# Altium integrated library Infineon_Power_MOSFET.IntLib: 1448 symbols (part 39 of 47)
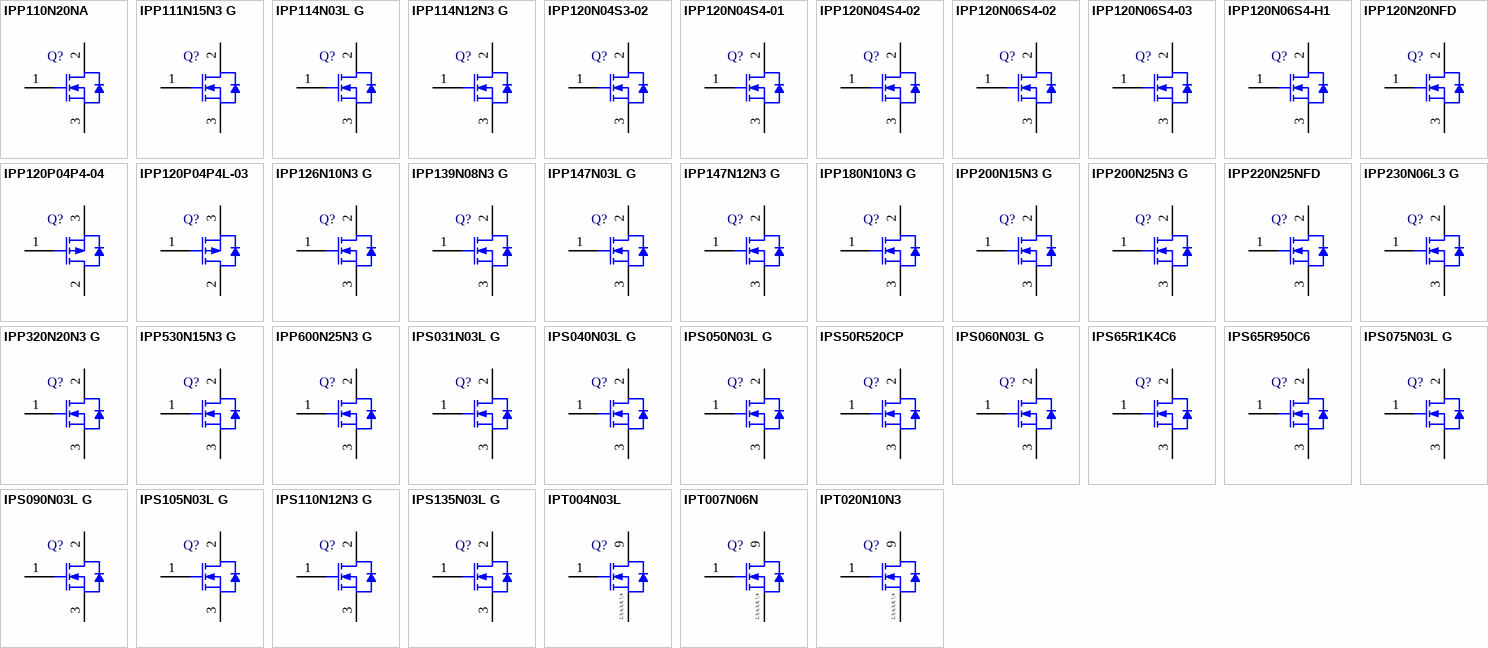
[diagram p75: symbols IPP110N20NA to IPT020N10N3]

## IPS031N03L G
designator Q?
N-Channel OptiMOS 3 Power-Transistor, 30 V VDS, 90 A ID, -55 to 175 degC, PG-TO251-3-11, Tube, Green; Manufacturer: Infineon; PartNumber: IPS031N03L G; Green: TRUE; ID (max): 90 A; IDpuls (max): 400 A; Polarity: N; Ptot (max): 94 W; QG: 25 nC; RDS (on) (max): 3.1 mOhm; RDS (on) (max) (@4.5V): 4.4 mOhm; Rth: 1.6 K/W; RthJA (max): 75 K/W; VDS (max): 30 V; VGS(th) (max): 2.2 V; VGS(th) (min): 1 V; DatasheetVersion: Rev. 2.1; PackageVersion: Rev. 03, 01/2008; PackageReference: PG-TO251-3-11; PackageDescription: 3-Pin Plastic (Green) Transistor Single Outline Package, 6.54 x 6.1 mm Body, 2.29 mm Pitch; Supplier 1: Mouser; Supplier Part Number 1: 726-IPS031N03LG; Supplier 2: Digi-Key; Supplier Part Number 2: IPS031N03LGIN-ND; Halogen-free: TRUE; Packing: Tube; RthJC (max): 1.6 K/W; Mounting Technology: Through Hole; ComponentLink1Description: Manufacturer URL; ComponentLink1URL: http://www.infineon.com/; ComponentLink2Description: Datasheet; ComponentLink2URL: http://www.infineon.com/dgdl/IPD031N03L_rev2.1.pdf?folderId=db3a304313b8b5a60113cee8ed2a02db&fileId=db3a304327b897500127d79737cb714c; ComponentLink3Description: Package Specification; ComponentLink3URL: http://www.infineon.com/dgdl/IPS50R520CP_rev2.1.pdf?folderId=db3a3043163797a6011637d4bae7003b&fileId=db3a30432b16d655012b1a87faf22d80
footprint INF-PG-TO251-3-11 (FM, 3-Leads, Body 6.54x2.285mm, Pitch 2.29mm)
pins: 1 GATE, 2 DRAIN, 3 SOURCE

## IPS040N03L G
designator Q?
N-Channel OptiMOS 3 Power-Transistor, 30 V VDS, 90 A ID, -55 to 175 degC, PG-TO251-3-11, Tube, Green; Manufacturer: Infineon; PartNumber: IPS040N03L G; Green: TRUE; ID (max): 90 A; IDpuls (max): 400 A; Polarity: N; Ptot (max): 79 W; QG: 18.2 nC; RDS (on) (max): 4 mOhm; RDS (on) (max) (@4.5V): 5.9 mOhm; Rth: 1.9 K/W; RthJA (max): 75 K/W; VDS (max): 30 V; VGS(th) (max): 2.2 V; VGS(th) (min): 1 V; DatasheetVersion: Rev. 2.1; PackageVersion: Rev. 03, 01/2008; PackageReference: PG-TO251-3-11; PackageDescription: 3-Pin Plastic (Green) Transistor Single Outline Package, 6.54 x 6.1 mm Body, 2.29 mm Pitch; Supplier 1: Mouser; Supplier Part Number 1: 726-IPS040N03LG; Supplier 2: Digi-Key; Supplier Part Number 2: IPS040N03LGIN-ND; Halogen-free: TRUE; Packing: Tube; RthJC (max): 1.9 K/W; Mounting Technology: Through Hole; ComponentLink1Description: Manufacturer URL; ComponentLink1URL: http://www.infineon.com/; ComponentLink2Description: Datasheet; ComponentLink2URL: http://www.infineon.com/dgdl/IPD040N03LG_rev2.1.pdf?folderId=db3a304313b8b5a60113cee8ed2a02db&fileId=db3a304327b897500127d7d219f0715d; ComponentLink3Description: Package Specification; ComponentLink3URL: http://www.infineon.com/dgdl/IPS50R520CP_rev2.1.pdf?folderId=db3a3043163797a6011637d4bae7003b&fileId=db3a30432b16d655012b1a87faf22d80
footprint INF-PG-TO251-3-11 (FM, 3-Leads, Body 6.54x2.285mm, Pitch 2.29mm)
pins: 1 GATE, 2 DRAIN, 3 SOURCE

## IPS050N03L G
designator Q?
N-Channel OptiMOS 3 Power-Transistor, 30 V VDS, 50 A ID, -55 to 175 degC, PG-TO251-3-11, Tube, Green; Manufacturer: Infineon; PartNumber: IPS050N03L G; Green: TRUE; ID (max): 50 A; IDpuls (max): 350 A; Polarity: N; Ptot (max): 68 W; QG: 15 nC; RDS (on) (max): 5 mOhm; RDS (on) (max) (@4.5V): 7.3 mOhm; Rth: 2.2 K/W; RthJA (max): 75 K/W; VDS (max): 30 V; VGS(th) (max): 2.2 V; VGS(th) (min): 1 V; DatasheetVersion: Rev. 1.02; PackageVersion: Rev. 03, 01/2008; PackageReference: PG-TO251-3-11; PackageDescription: 3-Pin Plastic (Green) Transistor Single Outline Package, 6.54 x 6.1 mm Body, 2.29 mm Pitch; Supplier 1: Farnell; Supplier Part Number 1: 1775658; Supplier 2: Digi-Key; Supplier Part Number 2: IPS050N03LGIN-ND; Halogen-free: TRUE; Packing: Tube; RthJC (max): 2.2 K/W; Mounting Technology: Through Hole; ComponentLink1Description: Manufacturer URL; ComponentLink1URL: http://www.infineon.com/; ComponentLink2Description: Datasheet; ComponentLink2URL: http://www.infineon.com/dgdl/IPD050N03LG_rev1%5B1%5D2.pdf?folderId=db3a304313b8b5a60113cee8763b02d7&fileId=db3a30432313ff5e01239e47dbfe701f; ComponentLink3Description: Package Specification; ComponentLink3URL: http://www.infineon.com/dgdl/IPS50R520CP_rev2.1.pdf?folderId=db3a3043163797a6011637d4bae7003b&fileId=db3a30432b16d655012b1a87faf22d80
footprint INF-PG-TO251-3-11 (FM, 3-Leads, Body 6.54x2.285mm, Pitch 2.29mm)
pins: 1 GATE, 2 DRAIN, 3 SOURCE

## IPS50R520CP
designator Q?
N-Channel CoolMOS Power-Transistor, 500 V VDS, 7.1 A ID, -55 to 150 degC, PG-TO251-3-11, Tube, Green; Manufacturer: Infineon; PartNumber: IPS50R520CP; Green: TRUE; ID (max): 7.1 A; IDpuls (max): 15 A; Polarity: N; Ptot (max): 66 W; QG: 13 nC; RDS (on) (max): 520 mOhm; Rth: 1.9 K/W; RthJA (max): 62 K/W; VDS (max): 500 V; VGS(th) (max): 3.5 V; VGS(th) (min): 2.5 V; DatasheetVersion: Rev. 2.1; PackageVersion: Rev. 03, 01/2008; PackageReference: PG-TO251-3-11; PackageDescription: 3-Pin Plastic (Green) Transistor Single Outline Package, 6.54 x 6.1 mm Body, 2.29 mm Pitch; Supplier 1: Mouser; Supplier Part Number 1: 726-IPS50R520CP; Supplier 2: Digi-Key; Supplier Part Number 2: IPS50R520CP-ND; Packing: Tube; RthJC (max): 1.9 K/W; Technology: CoolMOS CP; Mounting Technology: Through Hole; ComponentLink1Description: Manufacturer URL; ComponentLink1URL: http://www.infineon.com/; ComponentLink2Description: Datasheet; ComponentLink2URL: http://www.infineon.com/dgdl/IPS50R520CP_rev2.1.pdf?folderId=db3a3043163797a6011637d4bae7003b&fileId=db3a30432b16d655012b1a87faf22d80; ComponentLink3Description: Package Specification; ComponentLink3URL: http://www.infineon.com/dgdl/IPS50R520CP_rev2.1.pdf?folderId=db3a3043163797a6011637d4bae7003b&fileId=db3a30432b16d655012b1a87faf22d80
footprint INF-PG-TO251-3-11 (FM, 3-Leads, Body 6.54x2.285mm, Pitch 2.29mm)
pins: 1 GATE, 2 DRAIN, 3 SOURCE

## IPS060N03L G
designator Q?
N-Channel OptiMOS 3 Power-Transistor, 30 V VDS, 50 A ID, -55 to 175 degC, PG-TO251-3-11, Tube, Green; Manufacturer: Infineon; PartNumber: IPS060N03L G; Green: TRUE; ID (max): 50 A; IDpuls (max): 350 A; Polarity: N; Ptot (max): 56 W; QG: 11.3 nC; RDS (on) (max): 6 mOhm; RDS (on) (max) (@4.5V): 9 mOhm; Rth: 2.7 K/W; RthJA (max): 75 K/W; VDS (max): 30 V; VGS(th) (max): 2.2 V; VGS(th) (min): 1 V; DatasheetVersion: Rev. 2.1; PackageVersion: Rev. 03, 01/2008; PackageReference: PG-TO251-3-11; PackageDescription: 3-Pin Plastic (Green) Transistor Single Outline Package, 6.54 x 6.1 mm Body, 2.29 mm Pitch; Supplier 1: Mouser; Supplier Part Number 1: 726-IPS060N03LG; Supplier 2: Digi-Key; Supplier Part Number 2: IPS060N03LGIN-ND; Halogen-free: TRUE; Packing: Tube; RthJC (max): 2.7 K/W; Mounting Technology: Through Hole; ComponentLink1Description: Manufacturer URL; ComponentLink1URL: http://www.infineon.com/; ComponentLink2Description: Datasheet; ComponentLink2URL: http://www.infineon.com/dgdl/IPD060N03LG_rev2.1.pdf?folderId=db3a304313b8b5a60113cee8ed2a02db&fileId=db3a30431936bc4b0119951eb6136f7e; ComponentLink3Description: Package Specification; ComponentLink3URL: http://www.infineon.com/dgdl/IPS50R520CP_rev2.1.pdf?folderId=db3a3043163797a6011637d4bae7003b&fileId=db3a30432b16d655012b1a87faf22d80
footprint INF-PG-TO251-3-11 (FM, 3-Leads, Body 6.54x2.285mm, Pitch 2.29mm)
pins: 1 GATE, 2 DRAIN, 3 SOURCE

## IPS65R1K4C6
designator Q?
N-Channel CoolMOS C6 Power-Transistor, 650 V VDS, 3.2 A ID, -55 to 150 degC, PG-TO251-3-11, Tube, Green; Manufacturer: Infineon; PartNumber: IPS65R1K4C6; Green: TRUE; ID (max): 3.2 A; IDpuls (max): 8.3 A; Polarity: N; Ptot (max): 28 W; QG: 10.5 nC; RDS (on) (max): 1,400 mOhm; Rth: 4.4 K/W; RthJA (max): 62 K/W; VDS (max): 650 V; VGS(th) (max): 3.5 V; VGS(th) (min): 2.5 V; DatasheetVersion: Rev. 2.0; PackageVersion: Rev. 03, 01/2008; PackageReference: PG-TO251-3-11; PackageDescription: 3-Pin Plastic (Green) Transistor Single Outline Package, 6.54 x 6.1 mm Body, 2.29 mm Pitch; Halogen-free: TRUE; Packing: Tube; RthJC (max): 4.4 K/W; Technology: CoolMOS C6; Mounting Technology: Through Hole; ComponentLink1Description: Manufacturer URL; ComponentLink1URL: http://www.infineon.com/; ComponentLink2Description: Datasheet; ComponentLink2URL: http://www.infineon.com/dgdl/DS_IPS65R1K4C6.pdf?folderId=db3a3043163797a6011637d4bae7003b&fileId=db3a30433899edae01389e8ec2f0504f; ComponentLink3Description: Package Specification; ComponentLink3URL: http://www.infineon.com/dgdl/IPS50R520CP_rev2.1.pdf?folderId=db3a3043163797a6011637d4bae7003b&fileId=db3a30432b16d655012b1a87faf22d80
footprint INF-PG-TO251-3-11 (FM, 3-Leads, Body 6.54x2.285mm, Pitch 2.29mm)
pins: 1 GATE, 2 DRAIN, 3 SOURCE

## IPS65R950C6
designator Q?
N-Channel CoolMOS C6 Power-Transistor, 650 V VDS, 4.5 A ID, -55 to 150 degC, PG-TO251-3-11, Tube, Green; Manufacturer: Infineon; PartNumber: IPS65R950C6; Green: TRUE; ID (max): 4.5 A; IDpuls (max): 12 A; Polarity: N; Ptot (max): 37 W; QG: 15.3 nC; RDS (on) (max): 950 mOhm; Rth: 3.4 K/W; RthJA (max): 62 K/W; VDS (max): 650 V; VGS(th) (max): 3.5 V; VGS(th) (min): 2.5 V; DatasheetVersion: Rev. 2.0; PackageVersion: Rev. 03, 01/2008; PackageReference: PG-TO251-3-11; PackageDescription: 3-Pin Plastic (Green) Transistor Single Outline Package, 6.54 x 6.1 mm Body, 2.29 mm Pitch; Halogen-free: TRUE; Packing: Tube; RthJC (max): 3.4 K/W; Technology: CoolMOS C6; Mounting Technology: Through Hole; ComponentLink1Description: Manufacturer URL; ComponentLink1URL: http://www.infineon.com/; ComponentLink2Description: Datasheet; ComponentLink2URL: http://www.infineon.com/dgdl/DS_IPS65R950C6.pdf?folderId=db3a3043163797a6011637d4bae7003b&fileId=db3a30433899edae01389e81a77f502f; ComponentLink3Description: Package Specification; ComponentLink3URL: http://www.infineon.com/dgdl/IPS50R520CP_rev2.1.pdf?folderId=db3a3043163797a6011637d4bae7003b&fileId=db3a30432b16d655012b1a87faf22d80
footprint INF-PG-TO251-3-11 (FM, 3-Leads, Body 6.54x2.285mm, Pitch 2.29mm)
pins: 1 GATE, 2 DRAIN, 3 SOURCE

## IPS075N03L G
designator Q?
N-Channel OptiMOS 3 Power-Transistor, 30 V VDS, 50 A ID, -55 to 175 degC, PG-TO251-3-11, Tube, Green; Manufacturer: Infineon; PartNumber: IPS075N03L G; Green: TRUE; ID (max): 50 A; IDpuls (max): 350 A; Polarity: N; Ptot (max): 47 W; QG: 8.7 nC; RDS (on) (max): 7.5 mOhm; RDS (on) (max) (@4.5V): 11.4 mOhm; Rth: 3.2 K/W; RthJA (max): 75 K/W; VDS (max): 30 V; VGS(th) (max): 2.2 V; VGS(th) (min): 1 V; DatasheetVersion: Rev. 2.1; PackageVersion: Rev. 03, 01/2008; PackageReference: PG-TO251-3-11; PackageDescription: 3-Pin Plastic (Green) Transistor Single Outline Package, 6.54 x 6.1 mm Body, 2.29 mm Pitch; Supplier 1: Newark; Supplier Part Number 1: 60R2769; Supplier 2: Farnell; Supplier Part Number 2: 1775660; Supplier 3: Digi-Key; Supplier Part Number 3: IPS075N03L G-ND; Halogen-free: TRUE; Packing: Tube; RthJC (max): 3.2 K/W; Mounting Technology: Through Hole; ComponentLink1Description: Manufacturer URL; ComponentLink1URL: http://www.infineon.com/; ComponentLink2Description: Datasheet; ComponentLink2URL: http://www.infineon.com/dgdl/IPD075N03LG_rev2.1.pdf?folderId=db3a304313b8b5a60113cee8763b02d7&fileId=db3a30431936bc4b011951d824f83aeb; ComponentLink3Description: Package Specification; ComponentLink3URL: http://www.infineon.com/dgdl/IPS50R520CP_rev2.1.pdf?folderId=db3a3043163797a6011637d4bae7003b&fileId=db3a30432b16d655012b1a87faf22d80
footprint INF-PG-TO251-3-11 (FM, 3-Leads, Body 6.54x2.285mm, Pitch 2.29mm)
pins: 1 GATE, 2 DRAIN, 3 SOURCE

## IPS090N03L G
designator Q?
N-Channel OptiMOS 3 Power-Transistor, 30 V VDS, 40 A ID, -55 to 175 degC, PG-TO251-3-11, Tube, Green; Manufacturer: Infineon; PartNumber: IPS090N03L G; Green: TRUE; ID (max): 40 A; IDpuls (max): 280 A; Polarity: N; Ptot (max): 42 W; QG: 7.4 nC; RDS (on) (max): 9 mOhm; RDS (on) (max) (@4.5V): 13.5 mOhm; Rth: 3.6 K/W; RthJA (max): 75 K/W; VDS (max): 30 V; VGS(th) (max): 2.2 V; VGS(th) (min): 1 V; DatasheetVersion: Rev. 1.09; PackageVersion: Rev. 03, 01/2008; PackageReference: PG-TO251-3-11; PackageDescription: 3-Pin Plastic (Green) Transistor Single Outline Package, 6.54 x 6.1 mm Body, 2.29 mm Pitch; Supplier 1: Mouser; Supplier Part Number 1: 726-IPS090N03LG; Supplier 2: Digi-Key; Supplier Part Number 2: IPS090N03LGIN-ND; Halogen-free: TRUE; Packing: Tube; RthJC (max): 3.6 K/W; Mounting Technology: Through Hole; ComponentLink1Description: Manufacturer URL; ComponentLink1URL: http://www.infineon.com/; ComponentLink2Description: Datasheet; ComponentLink2URL: http://www.infineon.com/dgdl/IPD090N03LG_rev19.pdf?folderId=db3a304313b8b5a60113cee8ed2a02db&fileId=db3a304327b897500127d89522867181; ComponentLink3Description: Package Specification; ComponentLink3URL: http://www.infineon.com/dgdl/IPS50R520CP_rev2.1.pdf?folderId=db3a3043163797a6011637d4bae7003b&fileId=db3a30432b16d655012b1a87faf22d80
footprint INF-PG-TO251-3-11 (FM, 3-Leads, Body 6.54x2.285mm, Pitch 2.29mm)
pins: 1 GATE, 2 DRAIN, 3 SOURCE

## IPS105N03L G
designator Q?
N-Channel OptiMOS 3 Power-Transistor, 30 V VDS, 35 A ID, -55 to 175 degC, PG-TO251-3-11, Tube, Green; Manufacturer: Infineon; PartNumber: IPS105N03L G; Green: TRUE; ID (max): 35 A; IDpuls (max): 245 A; Polarity: N; Ptot (max): 38 W; QG: 6.6 nC; RDS (on) (max): 10.5 mOhm; RDS (on) (max) (@4.5V): 15.5 mOhm; Rth: 3.9 K/W; RthJA (max): 75 K/W; VDS (max): 30 V; VGS(th) (max): 2.2 V; VGS(th) (min): 1 V; DatasheetVersion: Rev. 2.1; PackageVersion: Rev. 03, 01/2008; PackageReference: PG-TO251-3-11; PackageDescription: 3-Pin Plastic (Green) Transistor Single Outline Package, 6.54 x 6.1 mm Body, 2.29 mm Pitch; Supplier 1: Mouser; Supplier Part Number 1: 726-IPS105N03LG; Supplier 2: Newark; Supplier Part Number 2: 60R2771; Supplier 3: Farnell; Supplier Part Number 3: 1775663; Supplier 4: Digi-Key; Supplier Part Number 4: IPS105N03LGIN-ND; Halogen-free: TRUE; Packing: Tube; RthJC (max): 3.9 K/W; Mounting Technology: Through Hole; ComponentLink1Description: Manufacturer URL; ComponentLink1URL: http://www.infineon.com/; ComponentLink2Description: Datasheet; ComponentLink2URL: http://www.infineon.com/dgdl/IPD105N03LG_rev2.1.pdf?folderId=db3a304313b8b5a60113cee8ed2a02db&fileId=db3a3043271faefd0127b84794a33348; ComponentLink3Description: Package Specification; ComponentLink3URL: http://www.infineon.com/dgdl/IPS50R520CP_rev2.1.pdf?folderId=db3a3043163797a6011637d4bae7003b&fileId=db3a30432b16d655012b1a87faf22d80
footprint INF-PG-TO251-3-11 (FM, 3-Leads, Body 6.54x2.285mm, Pitch 2.29mm)
pins: 1 GATE, 2 DRAIN, 3 SOURCE

## IPS110N12N3 G
designator Q?
N-Channel OptiMOS 3 Power-Transistor, 120 V VDS, 75 A ID, -55 to 175 degC, PG-TO-251SL, Tube, Green; Manufacturer: Infineon; PartNumber: IPS110N12N3 G; Green: TRUE; ID (max): 75 A; IDpuls (max): 300 A; Polarity: N; Ptot (max): 136 W; QG: 49 nC; RDS (on) (max): 11 mOhm; Rth: 1.1 K/W; RthJA (max): 75 K/W; VDS (max): 120 V; VGS(th) (max): 4 V; VGS(th) (min): 2 V; DatasheetVersion: Rev. 2.2; PackageVersion: Rev. 03, 01/2008; PackageReference: PG-TO-251SL; PackageDescription: 3-Pin Plastic (Green) Transistor Single Outline Package, 6.54 x 6.1 mm Body, 2.29 mm Pitch; Supplier 1: Digi-Key; Supplier Part Number 1: IPS110N12N3 G-ND; Packing: Tube; RthJC (max): 1.1 K/W; Mounting Technology: Through Hole; ComponentLink1Description: Manufacturer URL; ComponentLink1URL: http://www.infineon.com/; ComponentLink2Description: Datasheet; ComponentLink2URL: http://www.infineon.com/dgdl/IPD_S110N12N3+G_Rev2.2.pdf?folderId=db3a304313b8b5a60113cee8763b02d7&fileId=db3a30432239cccd0122a7a49e2b7d1d; ComponentLink3Description: Package Specification; ComponentLink3URL: http://www.infineon.com/dgdl/IPD_S110N12N3+G_Rev2.2.pdf?folderId=db3a304313b8b5a60113cee8763b02d7&fileId=db3a30432239cccd0122a7a49e2b7d1d
footprint INF-PG-TO-251SL (FM, 3-Leads, Body 6.54x2.285mm, Pitch 2.29mm)
pins: 1 GATE, 2 DRAIN, 3 SOURCE

## IPS135N03L G
designator Q?
N-Channel OptiMOS 3 Power-Transistor, 30 V VDS, 30 A ID, -55 to 175 degC, PG-TO251-3-11, Tube, Green; Manufacturer: Infineon; PartNumber: IPS135N03L G; Green: TRUE; ID (max): 30 A; IDpuls (max): 210 A; Polarity: N; Ptot (max): 31 W; QG: 4.8 nC; RDS (on) (max): 13.5 mOhm; RDS (on) (max) (@4.5V): 20.5 mOhm; Rth: 4.9 K/W; RthJA (max): 75 K/W; VDS (max): 30 V; VGS(th) (max): 2.2 V; VGS(th) (min): 1 V; DatasheetVersion: Rev. 2.1; PackageVersion: Rev. 03, 01/2008; PackageReference: PG-TO251-3-11; PackageDescription: 3-Pin Plastic (Green) Transistor Single Outline Package, 6.54 x 6.1 mm Body, 2.29 mm Pitch; Supplier 1: Digi-Key; Supplier Part Number 1: IPS135N03LGIN-ND; Halogen-free: TRUE; Packing: Tube; RthJC (max): 4.9 K/W; Mounting Technology: Through Hole; ComponentLink1Description: Manufacturer URL; ComponentLink1URL: http://www.infineon.com/; ComponentLink2Description: Datasheet; ComponentLink2URL: http://www.infineon.com/dgdl/IPD135N03LG_rev2.1.pdf?folderId=db3a304313b8b5a60113cee8ed2a02db&fileId=db3a304327b897500127b8b9540f0003; ComponentLink3Description: Package Specification; ComponentLink3URL: http://www.infineon.com/dgdl/IPS50R520CP_rev2.1.pdf?folderId=db3a3043163797a6011637d4bae7003b&fileId=db3a30432b16d655012b1a87faf22d80
footprint INF-PG-TO251-3-11 (FM, 3-Leads, Body 6.54x2.285mm, Pitch 2.29mm)
pins: 1 GATE, 2 DRAIN, 3 SOURCE

## IPT004N03L
designator Q?
N-Channel OptiMOS(TM) Power-MOSFET, 30 V VDS, 300 A ID, -55 to 175 degC, PG-HSOF-8, Reel, Green; Manufacturer: Infineon; PartNumber: IPT004N03L; Green: TRUE; ID (max): 300 A; IDpuls (max): 1,200 A; Polarity: FALSE; Ptot (max): 300 W; QG: 122 nC; RDS (on) (max): 0.4 mOhm; RthJA (max): 40 K/W; RthJC (max): 0.5 K/W; VDS (max): 30 V; VGS(th) (max): 2.2 V; VGS(th) (min): 0.7 V; DatasheetVersion: Rev. 1.2; PackageVersion: Rev. 04; PackageReference: PG-HSOF-8-1; PackageDescription: 8-Pin Plastic (Green) Heatlink Small Outline Flat Leads Package, 10.375 x 9.9 mm Body, 0.8 mm Pitch; Supplier 1: Mouser; Supplier Part Number 1: N/A; Halogen-free: TRUE; Packing: Reel; Technology: OptiMOS(TM); Mounting Technology: Surface Mount; ComponentLink1Description: Manufacturer URL; ComponentLink1URL: http://www.infineon.com/; ComponentLink2Description: Datasheet; ComponentLink2URL: http://www.infineon.com/dgdl/IPT004N03L_rev1.2.pdf?folderId=db3a304313b8b5a60113cee8763b02d7&fileId=db3a30433e9d5d11013e9e0f382600c2; ComponentLink3Description: Package Specification; ComponentLink3URL: http://www.infineon.com/cms/packages/SMD_-_Surface_Mounted_Devices/P-PG-HSOF/P-PG-HSOF-08-1.html?__locale=en
footprint INF-PG-HSOF-8-1_V (HSOF, 8-Leads, Body 11.675x9.9mm, Pitch 1.2mm)
pins: 1 GATE, 2 S, 3 S, 4 S, 5 S, 6 S, 7 S, 8 S, 9 D
text: 2, 3, 4, 5, 6, 7, 8

## IPT007N06N
designator Q?
N-Channel OptiMOS(TM) Power-Transistor, 60 V VDS, 300 A ID, -55 to 175 degC, PG-HSOF-8, Reel, Green; Manufacturer: Infineon; PartNumber: IPT007N06N; Green: TRUE; ID (max): 300 A; IDpuls (max): 1200 A; Polarity: N; Ptot (max): 375 W; QG: 216 nc; RDS (on) (max): 0.75 mOhm; RthJA (max): 62 K/W; RthJC (max): 0.4 K/W; VDS (max): 60 V; VGS(th) (max): 3.3 V; VGS(th) (min): 2.1 V; DatasheetVersion: Rev. 2.1; PackageVersion: Rev. 04; PackageReference: PG-HSOF-8-1; PackageDescription: 8-Pin Plastic (Green) Heatlink Small Outline Flat Leads Package, 10.375 x 9.9 mm Body, 0.8 mm Pitch; Supplier 1: Mouser; Supplier Part Number 1: N/A; Halogen-free: TRUE; Packing: Reel; Mounting Technology: Surface Mount; ComponentLink1Description: Manufacturer URL; ComponentLink1URL: http://www.infineon.com/; ComponentLink2Description: Datasheet; ComponentLink2URL: http://www.infineon.com/dgdl/DS_IPT007N06N_2_1.pdf?folderId=db3a304313b8b5a60113cee8763b02d7&fileId=db3a30433e9d5d11013e9e4618320118; ComponentLink3Description: Package Specification; ComponentLink3URL: http://www.infineon.com/cms/packages/SMD_-_Surface_Mounted_Devices/P-PG-HSOF/P-PG-HSOF-08-1.html?__locale=en
footprint INF-PG-HSOF-8-1_V (HSOF, 8-Leads, Body 11.675x9.9mm, Pitch 1.2mm)
pins: 1 GATE, 2 S, 3 S, 4 S, 5 S, 6 S, 7 S, 8 S, 9 D
text: 2, 3, 4, 5, 6, 7, 8

## IPT020N10N3
designator Q?
N-Channel OptiMOS(TM) 3 Power-Transistor, 100 V VDS, 300 A ID, -55 to 175 degC, PG-HSOF-8, Reel, Green; Manufacturer: Infineon; PartNumber: IPT020N10N3; Green: TRUE; ID (max): 300 A; IDpuls (max): 1200 A; Polarity: N; Ptot (max): 375 W; QG: 156 nc; RDS (on) (max): 2 mOhm; RthJA (max): 62 K/W; RthJC (max): 0.4 K/W; VDS (max): 100 V; VGS(th) (max): 3.5 V; VGS(th) (min): 2 V; DatasheetVersion: Rev. 2.0; PackageVersion: Rev. 04; PackageReference: PG-HSOF-8-1; PackageDescription: 8-Pin Plastic (Green) Heatlink Small Outline Flat Leads Package, 10.375 x 9.9 mm Body, 0.8 mm Pitch; Supplier 1: Mouser; Supplier Part Number 1: N/A; Halogen-free: TRUE; Packing: Reel; Mounting Technology: Surface Mount; ComponentLink1Description: Manufacturer URL; ComponentLink1URL: http://www.infineon.com/; ComponentLink2Description: Datasheet; ComponentLink2URL: http://www.infineon.com/dgdl/DS_IPT020N10N3_2_0.pdf?folderId=db3a304313b8b5a60113cee8763b02d7&fileId=db3a30433e9d5d11013e9e58035b0158; ComponentLink3Description: Package Specification; ComponentLink3URL: http://www.infineon.com/cms/packages/SMD_-_Surface_Mounted_Devices/P-PG-HSOF/P-PG-HSOF-08-1.html?__locale=en
footprint INF-PG-HSOF-8-1_V (HSOF, 8-Leads, Body 11.675x9.9mm, Pitch 1.2mm)
pins: 1 GATE, 2 S, 3 S, 4 S, 5 S, 6 S, 7 S, 8 S, 9 D
text: 2, 3, 4, 5, 6, 7, 8

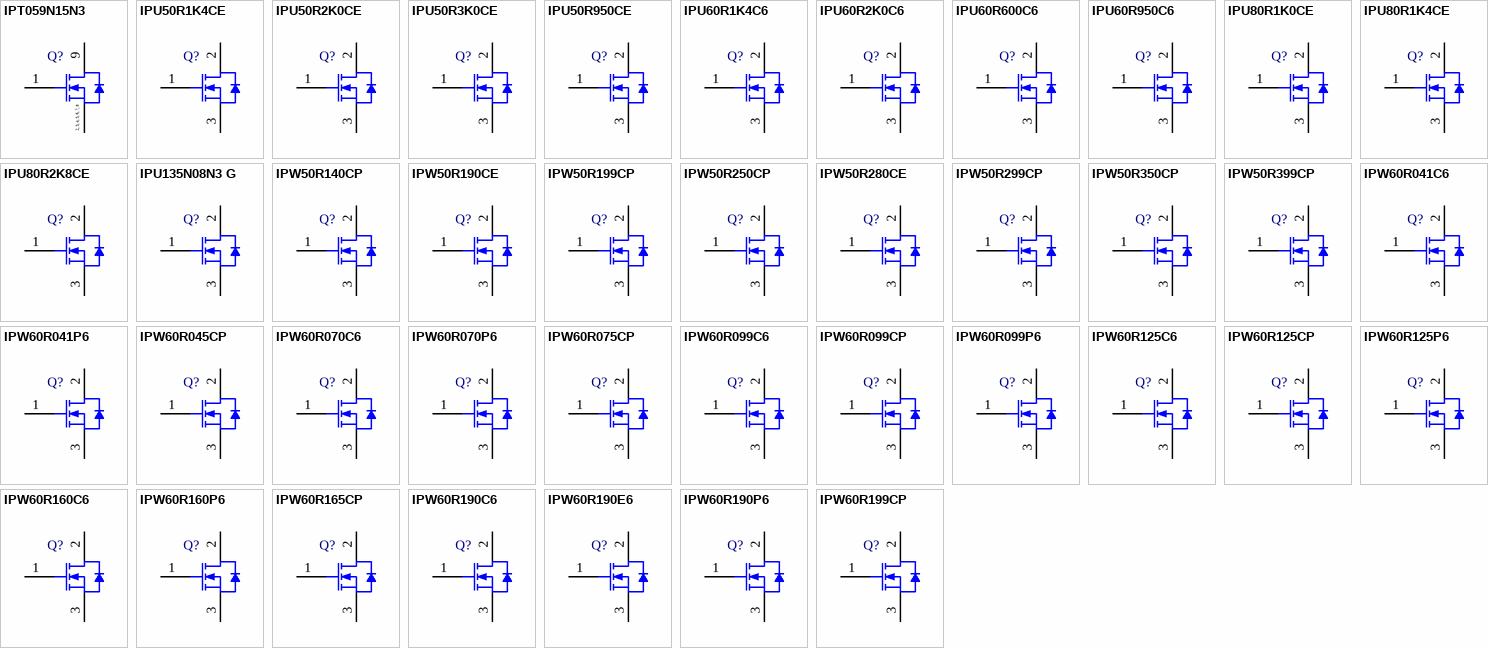
[diagram p31: symbols IPT059N15N3 to IPW60R199CP]

## IPT059N15N3
designator Q?
N-Channel OptiMOS(TM) 3 Power-Transistor, 150 V VDS, 155 A ID, -55 to 175 degC, PG-HSOF-8, Reel, Green; Manufacturer: Infineon; PartNumber: IPT059N15N3; Green: TRUE; ID (max): 155 A; IDpuls (max): 620 A; Polarity: N; Ptot (max): 375 W; QG: 69 nc; RDS (on) (max): 5.9 mOhm; RthJA (max): 62 K/W; RthJC (max): 0.4 K/W; VDS (max): 150 V; VGS(th) (max): 4 V; VGS(th) (min): 2 V; DatasheetVersion: Rev. 2.1; PackageVersion: Rev. 04; PackageReference: PG-HSOF-8-1; PackageDescription: 8-Pin Plastic (Green) Heatlink Small Outline Flat Leads Package, 10.375 x 9.9 mm Body, 0.8 mm Pitch; Supplier 1: Mouser; Supplier Part Number 1: N/A; Halogen-free: TRUE; Packing: Reel; Mounting Technology: Surface Mount; ComponentLink1Description: Manufacturer URL; ComponentLink1URL: http://www.infineon.com/; ComponentLink2Description: Datasheet; ComponentLink2URL: http://www.infineon.com/dgdl/DS_IPT059N15N3_2_1.pdf?folderId=db3a304326623792012669f6bee2224b&fileId=db3a30433e9d5d11013e9e62778d0185; ComponentLink3Description: Package Specification; ComponentLink3URL: http://www.infineon.com/cms/packages/SMD_-_Surface_Mounted_Devices/P-PG-HSOF/P-PG-HSOF-08-1.html?__locale=en
footprint INF-PG-HSOF-8-1_V (HSOF, 8-Leads, Body 11.675x9.9mm, Pitch 1.2mm)
pins: 1 GATE, 2 S, 3 S, 4 S, 5 S, 6 S, 7 S, 8 S, 9 D
text: 2, 3, 4, 5, 6, 7, 8

## IPU50R1K4CE
designator Q?
N-Channel CoolMOS CE Power-Transistor, 500 V VDS, 3.1 A ID, -55 to 150 degC, PG-TO-251-3-21, Tube, Green; Manufacturer: Infineon; PartNumber: IPU50R1K4CE; Green: TRUE; ID (max): 3.1 A; IDpuls (max): 9.1 A; Polarity: N; Ptot (max): 25 W; QG: 8.2 nC; RDS (on) (max): 1,400 mOhm; Rth: 4.91 K/W; RthJA (max): 62 K/W; VDS (max): 500 V; VGS(th) (max): 3.5 V; VGS(th) (min): 2.5 V; DatasheetVersion: Rev. 2.1; PackageVersion: Rev. 03, 10/2007; PackageReference: PG-TO-251-3-21; PackageDescription: 3-Pin Plastic (Green) Transistor Single Outline Package, 6.604 x 6.096 mm Body, 2.286 mm Pitch; Packing: Tube; RthJC (max): 4.91 K/W; Technology: CoolMOS CE; Mounting Technology: Through Hole; ComponentLink1Description: Manufacturer URL; ComponentLink1URL: http://www.infineon.com/; ComponentLink2Description: Datasheet; ComponentLink2URL: http://www.infineon.com/dgdl/IPx50R1K4CE_2_1.pdf?folderId=db3a3043156fd5730115c736bcc70ff2&fileId=db3a304339dcf4b10139e7c997862ca7; ComponentLink3Description: Package Specification; ComponentLink3URL: http://www.infineon.com/dgdl/SPD_U01N60C3_Rev.2.5.pdf?folderId=db3a304412b407950112b408e8c90004&fileId=db3a304412b407950112b42e18974951
footprint INF-PG-TO-251-3-21_A (FM, 3-Leads, Body 6.54x2.285mm, Pitch 2.29mm)
pins: 1 GATE, 2 DRAIN, 3 SOURCE

## IPU50R2K0CE
designator Q?
N-Channel CoolMOS CE Power-Transistor, 500 V VDS, 2.4 A ID, -55 to 150 degC, PG-TO-251-3-21, Tube, Green; Manufacturer: Infineon; PartNumber: IPU50R2K0CE; Green: TRUE; ID (max): 2.4 A; IDpuls (max): 6.1 A; Polarity: N; Ptot (max): 22 W; QG: 6 nC; RDS (on) (max): 2,000 mOhm; Rth: 5.7 K/W; RthJA (max): 62 K/W; VDS (max): 500 V; VGS(th) (max): 3.5 V; VGS(th) (min): 2.5 V; DatasheetVersion: Rev. 2.0; PackageVersion: Rev. 03, 10/2007; PackageReference: PG-TO-251-3-21; PackageDescription: 3-Pin Plastic (Green) Transistor Single Outline Package, 6.604 x 6.096 mm Body, 2.286 mm Pitch; Packing: Tube; RthJC (max): 5.7 K/W; Technology: CoolMOS CE; Mounting Technology: Through Hole; ComponentLink1Description: Manufacturer URL; ComponentLink1URL: http://www.infineon.com/; ComponentLink2Description: Datasheet; ComponentLink2URL: http://www.infineon.com/dgdl/IPx50R2K0CE_2_0.pdf?folderId=db3a3043163797a6011637d4bae7003b&fileId=db3a304339dcf4b10139e81130a92d32; ComponentLink3Description: Package Specification; ComponentLink3URL: http://www.infineon.com/dgdl/SPD_U01N60C3_Rev.2.5.pdf?folderId=db3a304412b407950112b408e8c90004&fileId=db3a304412b407950112b42e18974951
footprint INF-PG-TO-251-3-21_A (FM, 3-Leads, Body 6.54x2.285mm, Pitch 2.29mm)
pins: 1 GATE, 2 DRAIN, 3 SOURCE

## IPU50R3K0CE
designator Q?
N-Channel CoolMOS CE Power-Transistor, 500 V VDS, 1.7 A ID, -55 to 150 degC, PG-TO-251-3-21, Tube, Green; Manufacturer: Infineon; PartNumber: IPU50R3K0CE; Green: TRUE; ID (max): 1.7 A; IDpuls (max): 4.1 A; Polarity: N; Ptot (max): 18 W; QG: 4.3 nC; RDS (on) (max): 3,000 mOhm; Rth: 9.22 K/W; RthJA (max): 62 K/W; RthJC (max): 7.1 K/W; VDS (max): 500 V; VGS(th) (max): 3.5 V; VGS(th) (min): 2.5 V; DatasheetVersion: Rev. 2.0; PackageVersion: Rev. 03, 10/2007; PackageReference: PG-TO-251-3-21; PackageDescription: 3-Pin Plastic (Green) Transistor Single Outline Package, 6.604 x 6.096 mm Body, 2.286 mm Pitch; Packing: Tube; Technology: CoolMOS CE; Mounting Technology: Through Hole; ComponentLink1Description: Manufacturer URL; ComponentLink1URL: http://www.infineon.com/; ComponentLink2Description: Datasheet; ComponentLink2URL: http://www.infineon.com/dgdl/IPx50R3K0CE_2_0.pdf?folderId=db3a3043163797a6011637d4bae7003b&fileId=db3a304339dcf4b10139e7e9ff592ce4; ComponentLink3Description: Package Specification; ComponentLink3URL: http://www.infineon.com/dgdl/SPD_U01N60C3_Rev.2.5.pdf?folderId=db3a304412b407950112b408e8c90004&fileId=db3a304412b407950112b42e18974951
footprint INF-PG-TO-251-3-21_A (FM, 3-Leads, Body 6.54x2.285mm, Pitch 2.29mm)
pins: 1 GATE, 2 DRAIN, 3 SOURCE

## IPU50R950CE
designator Q?
N-Channel CoolMOS CE Power-Transistor, 500 V VDS, 4.3 A ID, -55 to 150 degC, PG-TO-251-3-21, Tube, Green; Manufacturer: Infineon; PartNumber: IPU50R950CE; Green: TRUE; ID (max): 4.3 A; IDpuls (max): 12.8 A; Polarity: N; Ptot (max): 34 W; QG: 10.5 nC; RDS (on) (max): 950 mOhm; Rth: 3.7 K/W; RthJA (max): 62 K/W; VDS (max): 500 V; VGS(th) (max): 3.5 V; VGS(th) (min): 2.5 V; DatasheetVersion: Rev. 2.0; PackageVersion: Rev. 03, 10/2007; PackageReference: PG-TO-251-3-21; PackageDescription: 3-Pin Plastic (Green) Transistor Single Outline Package, 6.604 x 6.096 mm Body, 2.286 mm Pitch; Supplier 1: Digi-Key; Supplier Part Number 1: IPU50R950CE-ND; Packing: Tube; RthJC (max): 3.7 K/W; Technology: CoolMOS CE; Mounting Technology: Through Hole; ComponentLink1Description: Manufacturer URL; ComponentLink1URL: http://www.infineon.com/; ComponentLink2Description: Datasheet; ComponentLink2URL: http://www.infineon.com/dgdl/IPx50R950CE+2.0.pdf?folderId=db3a3043156fd5730115c736bcc70ff2&fileId=db3a3043382e837301385194b31e1064; ComponentLink3Description: Package Specification; ComponentLink3URL: http://www.infineon.com/dgdl/SPD_U01N60C3_Rev.2.5.pdf?folderId=db3a304412b407950112b408e8c90004&fileId=db3a304412b407950112b42e18974951
footprint INF-PG-TO-251-3-21_A (FM, 3-Leads, Body 6.54x2.285mm, Pitch 2.29mm)
pins: 1 GATE, 2 DRAIN, 3 SOURCE

## IPU60R1K4C6
designator Q?
N-Channel CoolMOS C6 Power-Transistor, 600 V VDS, 3.2 A ID, -55 to 150 degC, PG-TO-251-3-21, Tube, Green; Manufacturer: Infineon; PartNumber: IPU60R1K4C6; Green: TRUE; ID (max): 3.2 A; IDpuls (max): 8 A; Polarity: N; Ptot (max): 28.4 W; QG: 9.4 nC; RDS (on) (max): 1,400 mOhm; Rth: 4.4 K/W; RthJA (max): 62 K/W; VDS (max): 600 V; VGS(th) (max): 3.5 V; VGS(th) (min): 2.5 V; DatasheetVersion: Rev. 2.0; PackageVersion: Rev. 03, 10/2007; PackageReference: PG-TO-251-3-21; PackageDescription: 3-Pin Plastic (Green) Transistor Single Outline Package, 6.604 x 6.096 mm Body, 2.286 mm Pitch; Packing: Tube; RthJC (max): 4.4 K/W; Technology: CoolMOS C6; Mounting Technology: Through Hole; ComponentLink1Description: Manufacturer URL; ComponentLink1URL: http://www.infineon.com/; ComponentLink2Description: Datasheet; ComponentLink2URL: http://www.infineon.com/dgdl/DS_IPU60R1K4C6_1.pdf?folderId=db3a3043163797a6011637d4bae7003b&fileId=db3a304335c2937a0135ed95b6483119; ComponentLink3Description: Package Specification; ComponentLink3URL: http://www.infineon.com/dgdl/SPD_U01N60C3_Rev.2.5.pdf?folderId=db3a304412b407950112b408e8c90004&fileId=db3a304412b407950112b42e18974951
footprint INF-PG-TO-251-3-21_A (FM, 3-Leads, Body 6.54x2.285mm, Pitch 2.29mm)
pins: 1 GATE, 2 DRAIN, 3 SOURCE

## IPU60R2K0C6
designator Q?
N-Channel CoolMOS C6 Power-Transistor, 600 V VDS, 2.4 A ID, -55 to 150 degC, PG-TO-251-3-21, Tube, Green; Manufacturer: Infineon; PartNumber: IPU60R2K0C6; Green: TRUE; ID (max): 2.4 A; IDpuls (max): 6 A; Polarity: N; Ptot (max): 22.3 W; QG: 6.7 nC; RDS (on) (max): 2,000 mOhm; Rth: 5.6 K/W; RthJA (max): 62 K/W; VDS (max): 600 V; VGS(th) (max): 3.5 V; VGS(th) (min): 2.5 V; DatasheetVersion: Rev. 2.1; PackageVersion: Rev. 03, 10/2007; PackageReference: PG-TO-251-3-21; PackageDescription: 3-Pin Plastic (Green) Transistor Single Outline Package, 6.604 x 6.096 mm Body, 2.286 mm Pitch; Packing: Tube; RthJC (max): 5.6 K/W; Technology: CoolMOS C6; Mounting Technology: Through Hole; ComponentLink1Description: Manufacturer URL; ComponentLink1URL: http://www.infineon.com/; ComponentLink2Description: Datasheet; ComponentLink2URL: http://www.infineon.com/dgdl/DS_IPU60R2K0C6_1.pdf?folderId=db3a3043163797a6011637d4bae7003b&fileId=db3a304335c2937a0135eda173023134; ComponentLink3Description: Package Specification; ComponentLink3URL: http://www.infineon.com/dgdl/SPD_U01N60C3_Rev.2.5.pdf?folderId=db3a304412b407950112b408e8c90004&fileId=db3a304412b407950112b42e18974951
footprint INF-PG-TO-251-3-21_A (FM, 3-Leads, Body 6.54x2.285mm, Pitch 2.29mm)
pins: 1 GATE, 2 DRAIN, 3 SOURCE

## IPU60R600C6
designator Q?
N-Channel CoolMOS C6 Power-Transistor, 600 V VDS, 7.3 A ID, -55 to 150 degC, PG-TO-251-3-21, Tube, Green; Manufacturer: Infineon; PartNumber: IPU60R600C6; Green: TRUE; ID (max): 7.3 A; IDpuls (max): 19 A; Polarity: N; Ptot (max): 63 W; QG: 20.5 nC; RDS (on) (max): 600 mOhm; Rth: 2 K/W; RthJA (max): 62 K/W; VDS (max): 600 V; VGS(th) (max): 3.5 V; VGS(th) (min): 2.5 V; DatasheetVersion: Rev. 2.1; PackageVersion: Rev. 03, 10/2007; PackageReference: PG-TO-251-3-21; PackageDescription: 3-Pin Plastic (Green) Transistor Single Outline Package, 6.604 x 6.096 mm Body, 2.286 mm Pitch; Packing: Tube; RthJC (max): 2 K/W; Technology: CoolMOS C6; Mounting Technology: Through Hole; ComponentLink1Description: Manufacturer URL; ComponentLink1URL: http://www.infineon.com/; ComponentLink2Description: Datasheet; ComponentLink2URL: http://www.infineon.com/dgdl/DS_IPU60R600C6_1.pdf?folderId=db3a3043163797a6011637d4bae7003b&fileId=db3a304335c2937a0135ed3e584930cb; ComponentLink3Description: Package Specification; ComponentLink3URL: http://www.infineon.com/dgdl/SPD_U01N60C3_Rev.2.5.pdf?folderId=db3a304412b407950112b408e8c90004&fileId=db3a304412b407950112b42e18974951
footprint INF-PG-TO-251-3-21_A (FM, 3-Leads, Body 6.54x2.285mm, Pitch 2.29mm)
pins: 1 GATE, 2 DRAIN, 3 SOURCE

## IPU60R950C6
designator Q?
N-Channel CoolMOS C6 Power-Transistor, 600 V VDS, 4.4 A ID, -55 to 150 degC, PG-TO-251-3-21, Tube, Green; Manufacturer: Infineon; PartNumber: IPU60R950C6; Green: TRUE; ID (max): 4.4 A; IDpuls (max): 12 A; Polarity: N; Ptot (max): 37 W; QG: 13 nC; RDS (on) (max): 950 mOhm; Rth: 3.41 K/W; RthJA (max): 62 K/W; VDS (max): 600 V; VGS(th) (max): 3.5 V; VGS(th) (min): 2.5 V; DatasheetVersion: Rev. 2.1; PackageVersion: Rev. 03, 10/2007; PackageReference: PG-TO-251-3-21; PackageDescription: 3-Pin Plastic (Green) Transistor Single Outline Package, 6.604 x 6.096 mm Body, 2.286 mm Pitch; Packing: Tube; RthJC (max): 3.41 K/W; Technology: CoolMOS C6; Mounting Technology: Through Hole; ComponentLink1Description: Manufacturer URL; ComponentLink1URL: http://www.infineon.com/; ComponentLink2Description: Datasheet; ComponentLink2URL: http://www.infineon.com/dgdl/DS_IPU60R950C6_1.pdf?folderId=db3a3043163797a6011637d4bae7003b&fileId=db3a304335c2937a0135ed814d2630fe; ComponentLink3Description: Package Specification; ComponentLink3URL: http://www.infineon.com/dgdl/SPD_U01N60C3_Rev.2.5.pdf?folderId=db3a304412b407950112b408e8c90004&fileId=db3a304412b407950112b42e18974951
footprint INF-PG-TO-251-3-21_A (FM, 3-Leads, Body 6.54x2.285mm, Pitch 2.29mm)
pins: 1 GATE, 2 DRAIN, 3 SOURCE

## IPU80R1K0CE
designator Q?
N-Channel CoolMOS(TM) CE Power Transistor, 800 V VDS, 5.7 A ID, -55 to 150 degC, PG-TO251-3, Tube, Green; Manufacturer: Infineon; PartNumber: IPU80R1K0CE; Green: TRUE; ID (max): 5.7 A; IDpuls (max): 18 A; Polarity: FALSE; Ptot (max): 83 W; QG: 31 nC; RDS (on) (max): 950 mOhm; RthJA (max): 62 K/W; RthJC (max): 1.5 K/W; VDS (max): 800 V; VGS(th) (max): 3.9 V; VGS(th) (min): 2.1 V; DatasheetVersion: Rev. 2.1; PackageVersion: Rev. 03, 03/2008; PackageReference: PG-TO251-3-1; PackageDescription: 3-Pin Plastic (Green) Transistor Single Outline Package, 6.54 x 6.1 mm Body, 2.29 mm Pitch; Supplier 1: Mouser; Supplier Part Number 1: N/A; Mounting: THT; Packing: Tube; Technology: CoolMOS(TM) CE; Mounting Technology: Through Hole; ComponentLink1Description: Manufacturer URL; ComponentLink1URL: http://www.infineon.com/; ComponentLink2Description: Datasheet; ComponentLink2URL: http://www.infineon.com/dgdl/DS_IPX80R1K0CE_2_1.pdf?folderId=db3a3043156fd5730115c736bcc70ff2&fileId=db3a304340155f3d01402ebac5992590; ComponentLink3Description: Package Specification; ComponentLink3URL: http://www.infineon.com/dgdl/IPU135N08N3_Rev2.11.pdf?folderId=db3a304313b8b5a60113cee8763b02d7&fileId=db3a30431ce5fb52011d6d4061d86bd2
footprint INF-PG-TO251-3-1_A (TO251, 3-Leads, Body 6.54x2.29mm, Pitch 2.29mm)
pins: 1 GATE, 2 DRAIN, 3 SOURCE

## IPU80R1K4CE
designator Q?
N-Channel CoolMOS(TM) CE Power Transistor, 800 V VDS, 3.9 A ID, -55 to 150 degC, PG-TO251-3, Tube, Green; Manufacturer: Infineon; PartNumber: IPU80R1K4CE; Green: TRUE; ID (max): 3.9 A; IDpuls (max): 12 A; Polarity: FALSE; Ptot (max): 63 W; QG: 23 nC; RDS (on) (max): 1,400 mOhm; RthJA (max): 62 K/W; RthJC (max): 2 K/W; VDS (max): 800 V; VGS(th) (max): 3.9 V; VGS(th) (min): 2.1 V; DatasheetVersion: Rev. 2.1; PackageVersion: Rev. 03, 03/2008; PackageReference: PG-TO251-3-1; PackageDescription: 3-Pin Plastic (Green) Transistor Single Outline Package, 6.54 x 6.1 mm Body, 2.29 mm Pitch; Supplier 1: Mouser; Supplier Part Number 1: N/A; Mounting: THT; Packing: Tube; Technology: CoolMOS(TM) CE; Mounting Technology: Through Hole; ComponentLink1Description: Manufacturer URL; ComponentLink1URL: http://www.infineon.com/; ComponentLink2Description: Datasheet; ComponentLink2URL: http://www.infineon.com/dgdl/DS_IPX80R1K4CE_2_1.pdf?folderId=db3a3043156fd5730115c736bcc70ff2&fileId=db3a304340155f3d01402f3b471926eb; ComponentLink3Description: Package Specification; ComponentLink3URL: http://www.infineon.com/dgdl/IPU135N08N3_Rev2.11.pdf?folderId=db3a304313b8b5a60113cee8763b02d7&fileId=db3a30431ce5fb52011d6d4061d86bd2
footprint INF-PG-TO251-3-1_A (TO251, 3-Leads, Body 6.54x2.29mm, Pitch 2.29mm)
pins: 1 GATE, 2 DRAIN, 3 SOURCE

## IPU80R2K8CE
designator Q?
N-CHannel CoolMOS(TM) CE Power Transistor, 800 V VDS, 1.9 A ID, -55 to 150 degC, PG-TO251-3, Tube, Green; Manufacturer: Infineon; PartNumber: IPU80R2K8CE; Green: TRUE; ID (max): 1.9 A; IDpuls (max): 6 A; Polarity: FALSE; Ptot (max): 42 W; QG: 12 nC; RDS (on) (max): 2,800 mOhm; RthJA (max): 62 K/W; RthJC (max): 3 K/W; VDS (max): 800 V; VGS(th) (max): 3.9 V; VGS(th) (min): 2.1 V; DatasheetVersion: Rev. 2.1; PackageVersion: Rev. 03, 03/2008; PackageReference: PG-TO251-3-1; PackageDescription: 3-Pin Plastic (Green) Transistor Single Outline Package, 6.54 x 6.1 mm Body, 2.29 mm Pitch; Supplier 1: Mouser; Supplier Part Number 1: N/A; Mounting: THT; Packing: Tube; Technology: CoolMOS(TM) CE; Mounting Technology: Through Hole; ComponentLink1Description: Manufacturer URL; ComponentLink1URL: http://www.infineon.com/; ComponentLink2Description: Datasheet; ComponentLink2URL: http://www.infineon.com/dgdl/DS_IPX80R2K8CE_2_1.pdf?folderId=db3a3043156fd5730115c736bcc70ff2&fileId=db3a304340155f3d01402f5e5f1f274f; ComponentLink3Description: Package Specification; ComponentLink3URL: http://www.infineon.com/dgdl/IPU135N08N3_Rev2.11.pdf?folderId=db3a304313b8b5a60113cee8763b02d7&fileId=db3a30431ce5fb52011d6d4061d86bd2
footprint INF-PG-TO251-3-1_A (TO251, 3-Leads, Body 6.54x2.29mm, Pitch 2.29mm)
pins: 1 GATE, 2 DRAIN, 3 SOURCE

## IPU135N08N3 G
designator Q?
N-Channel OptiMOS 3 Power-Transistor, 80 V VDS, 50 A ID, -55 to 175 degC, PG-TO251-3, Tube, Green; Manufacturer: Infineon; PartNumber: IPU135N08N3 G; Green: TRUE; ID (max): 50 A; IDpuls (max): 200 A; Polarity: N; Ptot (max): 79 W; QG: 19 nC; RDS (on) (max): 13.5 mOhm; Rth: 1.9 K/W; RthJA (max): 75 K/W; VDS (max): 80 V; VGS(th) (max): 3.5 V; VGS(th) (min): 2 V; DatasheetVersion: Rev. 2.1; PackageVersion: Rev. 03, 03/2008; PackageReference: PG-TO251-3-1; PackageDescription: 3-Pin Plastic (Green) Transistor Single Outline Package, 6.54 x 6.1 mm Body, 2.29 mm Pitch; Supplier 1: Mouser; Supplier Part Number 1: 726-IPU135N08N3G; Supplier 2: Digi-Key; Supplier Part Number 2: IPU135N08N3 G-ND; Packing: Tube; RthJC (max): 1.9 K/W; Mounting Technology: Through Hole; ComponentLink1Description: Manufacturer URL; ComponentLink1URL: http://www.infineon.com/; ComponentLink2Description: Datasheet; ComponentLink2URL: http://www.infineon.com/dgdl/IPU135N08N3_Rev2.11.pdf?folderId=db3a304313b8b5a60113cee8763b02d7&fileId=db3a30431ce5fb52011d6d4061d86bd2; ComponentLink3Description: Package Specification; ComponentLink3URL: http://www.infineon.com/dgdl/IPU135N08N3_Rev2.11.pdf?folderId=db3a304313b8b5a60113cee8763b02d7&fileId=db3a30431ce5fb52011d6d4061d86bd2
footprint INF-PG-TO251-3-1_A (TO251, 3-Leads, Body 6.54x2.29mm, Pitch 2.29mm)
pins: 1 GATE, 2 DRAIN, 3 SOURCE

## IPW50R140CP
designator Q?
N-Channel CoolMOS Power-Transistor, 500 V VDS, 23 A ID, -55 to 150 degC, PG-TO247-3-44, Tube, Green; Manufacturer: Infineon; PartNumber: IPW50R140CP; Green: TRUE; ID (max): 23 A; IDpuls (max): 56 A; Polarity: N; Ptot (max): 192 W; QG: 48 nC; RDS (on) (max): 140 mOhm; Rth: 0.65 K/W; RthJA (max): 62 K/W; VDS (max): 500 V; VGS(th) (max): 3.5 V; VGS(th) (min): 2.5 V; DatasheetVersion: Rev. 2.1; PackageVersion: Rev. 03; PackageReference: PG-TO247-3-44; PackageDescription: 3-Pin Plastic (Green) Transistor Single Outline Package, 15.94 x 20.95 mm Body, 5.44 mm Pitch; Supplier 1: Mouser; Supplier Part Number 1: 726-IPW50R140CP; Supplier 2: Digi-Key; Supplier Part Number 2: IPW50R140CP-ND; Halogen-free: available; Packing: Tube; RthJC (max): 0.65 K/W; Technology: CoolMOS CP; Mounting Technology: Through Hole; ComponentLink1Description: Manufacturer URL; ComponentLink1URL: http://www.infineon.com/; ComponentLink2Description: Datasheet; ComponentLink2URL: http://www.infineon.com/dgdl/IPW50R140CP_rev2%5B1%5D.1_PCN.pdf?folderId=db3a304412b407950112b408e8c90004&fileId=db3a304412b407950112b42daa4448bf; ComponentLink3Description: Package Specification; ComponentLink3URL: http://www.infineon.com/cms/packages/Leaded_and_through-hole/P-PG-TO247/P-PG-TO247-3-44.html?__locale=en
footprint INF-PG-TO247-3-44 (FM, 3-Leads, Body 5.02x15.94mm, Pitch 5.44mm)
pins: 1 GATE, 2 DRAIN, 3 SOURCE

## IPW50R190CE
designator Q?
N-Channel CoolMOS CE Power-Transistor, 500 V VDS, 18.5 A ID, -55 to 150 degC, PG-TO247-3-44, Tube, Green; Manufacturer: Infineon; PartNumber: IPW50R190CE; Green: TRUE; ID (max): 18.5 A; IDpuls (max): 63 A; Polarity: N; Ptot (max): 127 W; QG: 47.2 nC; RDS (on) (max): 190 mOhm; Rth: 0.98 K/W; RthJA (max): 80 K/W; VDS (max): 500 V; VGS(th) (max): 3.5 V; VGS(th) (min): 2.5 V; DatasheetVersion: Rev. 2.0; PackageVersion: Rev. 03; PackageReference: PG-TO247-3-44; PackageDescription: 3-Pin Plastic (Green) Transistor Single Outline Package, 15.94 x 20.95 mm Body, 5.44 mm Pitch; Supplier 1: Digi-Key; Supplier Part Number 1: IPW50R190CE-ND; Halogen-free: available; Packing: Tube; RthJC (max): 0.98 K/W; Technology: CoolMOS CE; Mounting Technology: Through Hole; ComponentLink1Description: Manufacturer URL; ComponentLink1URL: http://www.infineon.com/; ComponentLink2Description: Datasheet; ComponentLink2URL: http://www.infineon.com/dgdl/IPx50R380CE_2.0.pdf?folderId=db3a3043163797a6011637d4bae7003b&fileId=db3a30432e398416012e5273936c15b0; ComponentLink3Description: Package Specification; ComponentLink3URL: http://www.infineon.com/cms/packages/Leaded_and_through-hole/P-PG-TO247/P-PG-TO247-3-44.html?__locale=en
footprint INF-PG-TO247-3-44 (FM, 3-Leads, Body 5.02x15.94mm, Pitch 5.44mm)
pins: 1 GATE, 2 DRAIN, 3 SOURCE

## IPW50R199CP
designator Q?
N-Channel CoolMOS Power-Transistor, 500 V VDS, 17 A ID, -55 to 150 degC, PG-TO247-3-44, Tube, Green; Manufacturer: Infineon; PartNumber: IPW50R199CP; Green: TRUE; ID (max): 17 A; IDpuls (max): 40 A; Polarity: N; Ptot (max): 139 W; QG: 34 nC; RDS (on) (max): 199 mOhm; Rth: 0.9 K/W; RthJA (max): 62 K/W; VDS (max): 500 V; VGS(th) (max): 3.5 V; VGS(th) (min): 2.5 V; DatasheetVersion: Rev. 2.1; PackageVersion: Rev. 03; PackageReference: PG-TO247-3-44; PackageDescription: 3-Pin Plastic (Green) Transistor Single Outline Package, 15.94 x 20.95 mm Body, 5.44 mm Pitch; Supplier 1: Mouser; Supplier Part Number 1: 726-IPW50R199CP; Supplier 2: Digi-Key; Supplier Part Number 2: IPW50R199CP-ND; Halogen-free: available; Packing: Tube; RthJC (max): 0.9 K/W; Technology: CoolMOS CP; Mounting Technology: Through Hole; ComponentLink1Description: Manufacturer URL; ComponentLink1URL: http://www.infineon.com/; ComponentLink2Description: Datasheet; ComponentLink2URL: http://www.infineon.com/dgdl/IPW50R199CP_rev2%5B1%5D.1_PCN.pdf?folderId=db3a304412b407950112b408e8c90004&fileId=db3a304412b407950112b42d39454833; ComponentLink3Description: Package Specification; ComponentLink3URL: http://www.infineon.com/cms/packages/Leaded_and_through-hole/P-PG-TO247/P-PG-TO247-3-44.html?__locale=en
footprint INF-PG-TO247-3-44 (FM, 3-Leads, Body 5.02x15.94mm, Pitch 5.44mm)
pins: 1 GATE, 2 DRAIN, 3 SOURCE

## IPW50R250CP
designator Q?
N-Channel CoolMOS Power-Transistor, 500 V VDS, 13 A ID, -55 to 150 degC, PG-TO247-3-44, Tube, Green; Manufacturer: Infineon; PartNumber: IPW50R250CP; Green: TRUE; ID (max): 13 A; IDpuls (max): 31 A; Polarity: N; Ptot (max): 114 W; QG: 27 nC; RDS (on) (max): 250 mOhm; Rth: 1.1 K/W; RthJA (max): 62 K/W; VDS (max): 500 V; VGS(th) (max): 3.5 V; VGS(th) (min): 2.5 V; DatasheetVersion: Rev. 2.0; PackageVersion: Rev. 03; PackageReference: PG-TO247-3-44; PackageDescription: 3-Pin Plastic (Green) Transistor Single Outline Package, 15.94 x 20.95 mm Body, 5.44 mm Pitch; Supplier 1: Mouser; Supplier Part Number 1: 726-IPW50R250CP; Supplier 2: Farnell; Supplier Part Number 2: 1664079; Supplier 3: Digi-Key; Supplier Part Number 3: IPW50R250CP-ND; Halogen-free: available; Packing: Tube; RthJC (max): 1.1 K/W; Technology: CoolMOS CP; Mounting Technology: Through Hole; ComponentLink1Description: Manufacturer URL; ComponentLink1URL: http://www.infineon.com/; ComponentLink2Description: Datasheet; ComponentLink2URL: http://www.infineon.com/dgdl/IPW50R250CP_rev2%5B1%5D.0_PCN.pdf?folderId=db3a304314dca38901152837f87d12ad&fileId=db3a30431689f4420116d39d36530c48; ComponentLink3Description: Package Specification; ComponentLink3URL: http://www.infineon.com/cms/packages/Leaded_and_through-hole/P-PG-TO247/P-PG-TO247-3-44.html?__locale=en
footprint INF-PG-TO247-3-44 (FM, 3-Leads, Body 5.02x15.94mm, Pitch 5.44mm)
pins: 1 GATE, 2 DRAIN, 3 SOURCE

## IPW50R280CE
designator Q?
N-Channel CoolMOS CE Power-Transistor, 500 V VDS, 13 A ID, -55 to 150 degC, PG-TO247-3-44, Tube, Green; Manufacturer: Infineon; PartNumber: IPW50R280CE; Green: TRUE; ID (max): 13 A; IDpuls (max): 42.9 A; Polarity: N; Ptot (max): 92 W; QG: 32.6 nC; RDS (on) (max): 280 mOhm; Rth: 1.36 K/W; RthJA (max): 62 K/W; VDS (max): 500 V; VGS(th) (max): 3.5 V; VGS(th) (min): 2.5 V; DatasheetVersion: Rev. 2.0; PackageVersion: Rev. 03; PackageReference: PG-TO247-3-44; PackageDescription: 3-Pin Plastic (Green) Transistor Single Outline Package, 15.94 x 20.95 mm Body, 5.44 mm Pitch; Supplier 1: Mouser; Supplier Part Number 1: 726-IPW50R280CE; Supplier 2: Digi-Key; Supplier Part Number 2: IPW50R280CEIN-ND; Halogen-free: available; Packing: Tube; RthJC (max): 1.36 K/W; Technology: CoolMOS CE; Mounting Technology: Through Hole; ComponentLink1Description: Manufacturer URL; ComponentLink1URL: http://www.infineon.com/; ComponentLink2Description: Datasheet; ComponentLink2URL: http://www.infineon.com/dgdl/IPx50R280CE+2.0.pdf?folderId=db3a3043156fd5730115c736bcc70ff2&fileId=db3a3043382e837301384ce20ea743c7; ComponentLink3Description: Package Specification; ComponentLink3URL: http://www.infineon.com/cms/packages/Leaded_and_through-hole/P-PG-TO247/P-PG-TO247-3-44.html?__locale=en
footprint INF-PG-TO247-3-44 (FM, 3-Leads, Body 5.02x15.94mm, Pitch 5.44mm)
pins: 1 GATE, 2 DRAIN, 3 SOURCE

## IPW50R299CP
designator Q?
N-Channel CoolMOS Power-Transistor, 500 V VDS, 12 A ID, -55 to 150 degC, PG-TO247-3-44, Tube, Green; Manufacturer: Infineon; PartNumber: IPW50R299CP; Green: TRUE; ID (max): 12 A; IDpuls (max): 26 A; Polarity: N; Ptot (max): 104 W; QG: 23 nC; RDS (on) (max): 299 mOhm; Rth: 1.2 K/W; RthJA (max): 62 K/W; VDS (max): 500 V; VGS(th) (max): 3.5 V; VGS(th) (min): 2.5 V; DatasheetVersion: Rev. 2.0; PackageVersion: Rev. 03; PackageReference: PG-TO247-3-44; PackageDescription: 3-Pin Plastic (Green) Transistor Single Outline Package, 15.94 x 20.95 mm Body, 5.44 mm Pitch; Supplier 1: Mouser; Supplier Part Number 1: 726-IPW50R299CP; Supplier 2: Digi-Key; Supplier Part Number 2: IPW50R299CP-ND; Halogen-free: available; Packing: Tube; RthJC (max): 1.2 K/W; Technology: CoolMOS CP; Mounting Technology: Through Hole; ComponentLink1Description: Manufacturer URL; ComponentLink1URL: http://www.infineon.com/; ComponentLink2Description: Datasheet; ComponentLink2URL: http://www.infineon.com/dgdl/IPW50R299CP_rev2%5B1%5D.0_PCN.pdf?folderId=db3a304314dca38901152837f87d12ad&fileId=db3a30431689f4420116d325d19e0c29; ComponentLink3Description: Package Specification; ComponentLink3URL: http://www.infineon.com/cms/packages/Leaded_and_through-hole/P-PG-TO247/P-PG-TO247-3-44.html?__locale=en
footprint INF-PG-TO247-3-44 (FM, 3-Leads, Body 5.02x15.94mm, Pitch 5.44mm)
pins: 1 GATE, 2 DRAIN, 3 SOURCE

## IPW50R350CP
designator Q?
N-Channel CoolMOS Power-Transistor, 500 V VDS, 10 A ID, -55 to 150 degC, PG-TO247-3-44, Tube, Green; Manufacturer: Infineon; PartNumber: IPW50R350CP; Green: TRUE; ID (max): 10 A; IDpuls (max): 22 A; Polarity: N; Ptot (max): 89 W; QG: 19 nC; RDS (on) (max): 350 mOhm; Rth: 1.4 K/W; RthJA (max): 62 K/W; VDS (max): 500 V; VGS(th) (max): 3.5 V; VGS(th) (min): 2.5 V; DatasheetVersion: Rev. 2.0; PackageVersion: Rev. 03; PackageReference: PG-TO247-3-44; PackageDescription: 3-Pin Plastic (Green) Transistor Single Outline Package, 15.94 x 20.95 mm Body, 5.44 mm Pitch; Supplier 1: Mouser; Supplier Part Number 1: 726-IPW50R350CP; Supplier 2: Farnell; Supplier Part Number 2: 1664081; Supplier 3: Digi-Key; Supplier Part Number 3: IPW50R350CP-ND; Halogen-free: available; Packing: Tube; RthJC (max): 1.4 K/W; Technology: CoolMOS CP; Mounting Technology: Through Hole; ComponentLink1Description: Manufacturer URL; ComponentLink1URL: http://www.infineon.com/; ComponentLink2Description: Datasheet; ComponentLink2URL: http://www.infineon.com/dgdl/IPW50R350CP_rev2%5B1%5D.0_PCN.pdf?folderId=db3a304314dca38901152837f87d12ad&fileId=db3a30431689f4420116d315d5de0c1b; ComponentLink3Description: Package Specification; ComponentLink3URL: http://www.infineon.com/cms/packages/Leaded_and_through-hole/P-PG-TO247/P-PG-TO247-3-44.html?__locale=en
footprint INF-PG-TO247-3-44 (FM, 3-Leads, Body 5.02x15.94mm, Pitch 5.44mm)
pins: 1 GATE, 2 DRAIN, 3 SOURCE

## IPW50R399CP
designator Q?
N-Channel CoolMOS Power-Transistor, 500 V VDS, 9 A ID, -55 to 150 degC, PG-TO247-3-44, Tube, Green; Manufacturer: Infineon; PartNumber: IPW50R399CP; Green: TRUE; ID (max): 9 A; IDpuls (max): 20 A; Polarity: N; Ptot (max): 83 W; QG: 17 nC; RDS (on) (max): 399 mOhm; Rth: 1.5 K/W; RthJA (max): 62 K/W; VDS (max): 500 V; VGS(th) (max): 3.5 V; VGS(th) (min): 2.5 V; DatasheetVersion: Rev. 2.1; PackageVersion: Rev. 03; PackageReference: PG-TO247-3-44; PackageDescription: 3-Pin Plastic (Green) Transistor Single Outline Package, 15.94 x 20.95 mm Body, 5.44 mm Pitch; Supplier 1: Mouser; Supplier Part Number 1: 726-IPW50R399CP; Supplier 2: Farnell; Supplier Part Number 2: 1664082; Supplier 3: Digi-Key; Supplier Part Number 3: IPW50R399CP-ND; Halogen-free: available; Packing: Tube; RthJC (max): 1.5 K/W; Technology: CoolMOS CP; Mounting Technology: Through Hole; ComponentLink1Description: Manufacturer URL; ComponentLink1URL: http://www.infineon.com/; ComponentLink2Description: Datasheet; ComponentLink2URL: http://www.infineon.com/dgdl/IPW50R399CP_rev2%5B1%5D.1_PCN.pdf?folderId=db3a304412b407950112b408e8c90004&fileId=db3a304412b407950112b42d487e4847; ComponentLink3Description: Package Specification; ComponentLink3URL: http://www.infineon.com/cms/packages/Leaded_and_through-hole/P-PG-TO247/P-PG-TO247-3-44.html?__locale=en
footprint INF-PG-TO247-3-44 (FM, 3-Leads, Body 5.02x15.94mm, Pitch 5.44mm)
pins: 1 GATE, 2 DRAIN, 3 SOURCE